# Altium footprint library SOT-23_DIY.PcbLib: 1 footprints
Each footprint in its own frame and in the unit in brackets; x right, y up, seen from the top. Pads: shape width x height; smd on the part's side, far side on the other; paste and mask are expansions set on the pad; w line width, h text height; cw(c..) or ccw(c..) is an arc to the next point about the centre after c.
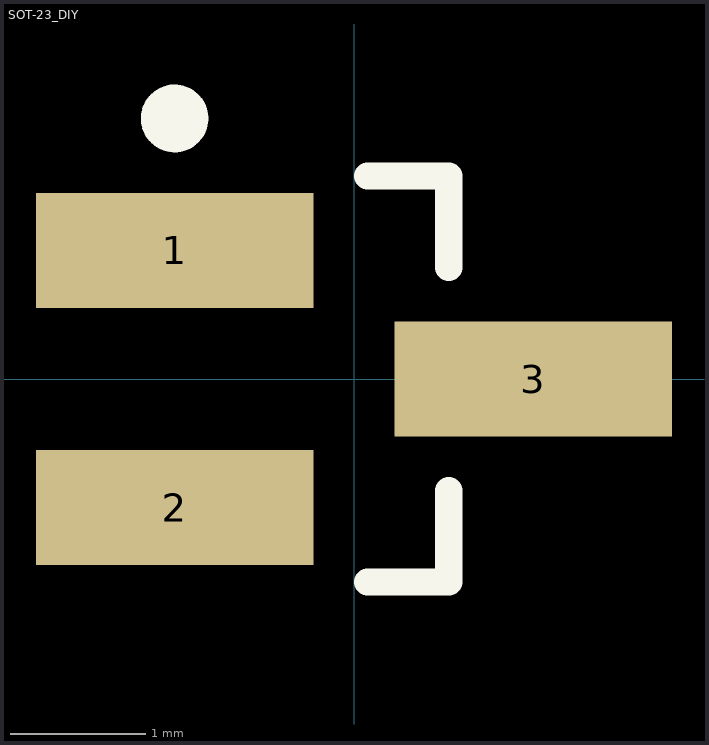
[diagram p0: the footprint, top view; thin cyan lines are the x and y axes]

## SOT-23_DIY [mm]
height 1.12
pads (3):
  rect 2.05x0.85 smd: 1(-1.325,0.95) 2(-1.325,-0.95) 3(1.325,0)
Top Overlay:
  circle w0.25: c-1.325,1.925 r0.125
  lines w0.2: 0.1,-1.5 0.7,-1.5 0.7,-0.825 ; 0.1,1.5 0.7,1.5 0.7,0.825